# Altium footprint library TOSLINK.PcbLib: 2 footprints
Each footprint in its own frame and in the unit in brackets; x right, y up, seen from the top. Pads: shape width x height; smd on the part's side, far side on the other; paste and mask are expansions set on the pad; w line width, h text height; cw(c..) or ccw(c..) is an arc to the next point about the centre after c.
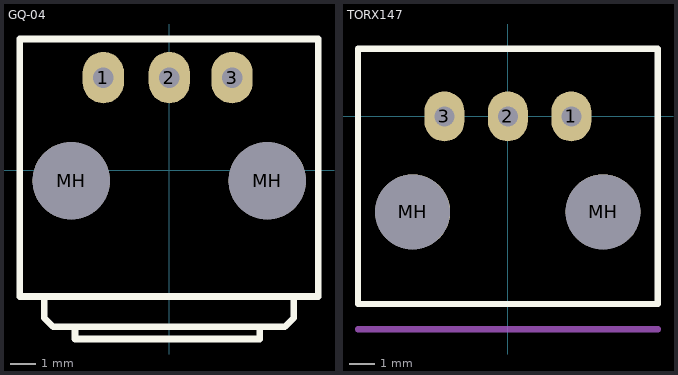
[diagram p0: the footprints below, top view; thin cyan lines are the x and y axes]

## GQ-04 [mm]
pads (5):
  oval 1.6x2 hole 0.8: 1(-2.55,3.6) 2(0.013,3.6) 3(2.45,3.6)
  round 3 hole 3 unplated: MH(-3.8,-0.4) MH(3.82,-0.4)
Top Overlay:
  lines w0.254: -4.85,-4.9 -4.85,-5.725 -4.5,-6.075 4.5,-6.075 4.85,-5.725 4.85,-4.9 ; -3.65,-6.075 -3.65,-6.55 3.525,-6.55 ; 3.525,-6.075 3.525,-6.55 ; 3.525,-6.55 3.525,-6.55 ; -5.8,-4.9 -5.8,5.1 5.8,5.1 5.8,-4.9 -5.8,-4.9
3D body "TORX147PL(f t).step": height 9.85, standoff -3.75, extent -4.9,-7.575 4.8,5.925

## TORX147 [mm]
height 19.5
pads (5):
  oval 1.6x2 hole 0.8: 1(2.54,0) 2(0,0) 3(-2.54,0)
  round 3 hole 3 unplated: MH(-3.81,-3.82) MH(3.81,-3.82)
Top Overlay:
  lines w0.254: -5.6,-7.51 -6,-7.51 ; -6,-7.51 6,-7.51 6,2.71 -6,2.71 -6,-7.51
Mechanical 1:
  lines w0.254: -6,-8.52 6.01,-8.52
3D body "User Library-TORX147L-1.step": height 19.25, standoff -3.75, extent -5.807,-11.31 5.808,2.49